# Altium footprint library JST.PcbLib: 1 footprints
Each footprint in its own frame and in the unit in brackets; x right, y up, seen from the top. Pads: shape width x height; smd on the part's side, far side on the other; paste and mask are expansions set on the pad; w line width, h text height; cw(c..) or ccw(c..) is an arc to the next point about the centre after c.
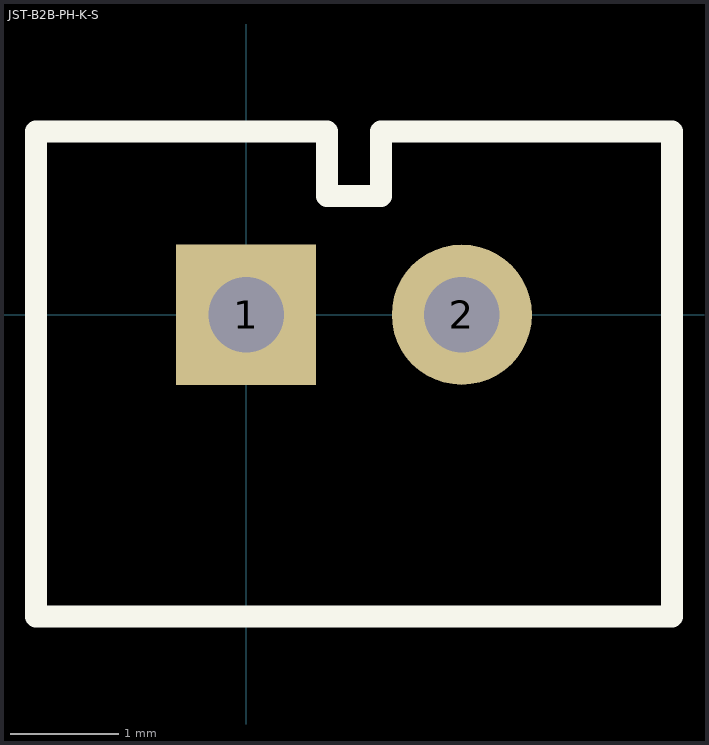
[diagram p0: the footprint, top view; thin cyan lines are the x and y axes]

## JST-B2B-PH-K-S [mm]
pads (2):
  rect 1.3x1.3 hole 0.7: 1(0,0)
  round 1.3 hole 0.7: 2(2,0)
Top Overlay:
  lines w0.203: -1.95,-2.8 -1.95,1.7 0.75,1.7 0.75,1.1 1.25,1.1 1.25,1.7 3.95,1.7 3.95,-2.8 -1.95,-2.8
3D body "User Library-PCB HEADER (JST BxB-PH-K-S (VERTICAL)).SLDPRT": height 6, standoff -1.91, extent -1.95,-2.8 4.05,1.7